# Altium footprint library RHDR24W64P254_2X12_3033X498X870P.PcbLib: 1 footprints
Each footprint in its own frame and in the unit in brackets; x right, y up, seen from the top. Pads: shape width x height; smd on the part's side, far side on the other; paste and mask are expansions set on the pad; w line width, h text height; cw(c..) or ccw(c..) is an arc to the next point about the centre after c.
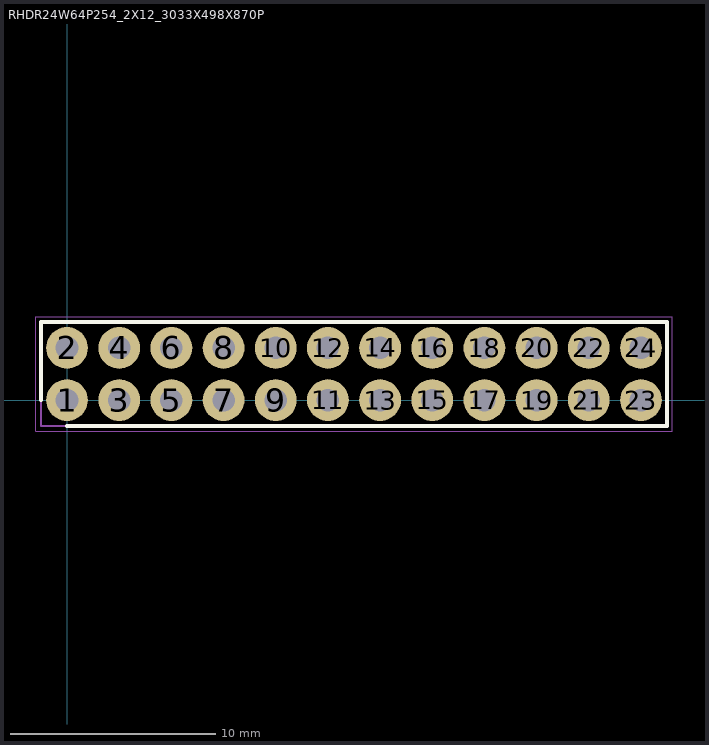
[diagram p0: the footprint, top view; thin cyan lines are the x and y axes]

## RHDR24W64P254_2X12_3033X498X870P [mil]
pads (24):
  round 80 hole 43.31: 1(0,0) 2(0,100) 3(100,0) 4(100,100) 5(200,0) 6(200,100) 7(300,0) 8(300,100) 9(400,0) 10(400,100) 11(500,0) 12(500,100) 13(600,0) 14(600,100) 15(700,0) 16(700,100) 17(800,0) 18(800,100) 19(900,0) 20(900,100) 21(1000,0) 22(1000,100) 23(1100,0) 24(1100,100)
Top Overlay:
  lines w7.87: -50,0 -50,150 1150,150 1150,-50 0,-50
Mechanical 15:
  lines w3.94: -50,-50 1150,-50 1150,150 -50,150 -50,-50
Mechanical 20:
  lines w1.97: -59.84,-59.84 1159.84,-59.84 1159.84,159.84 -59.84,159.84 -59.84,-59.84